# EAGLE library part SDCARD (library SDCARD)
SD CARD CONNECTOR
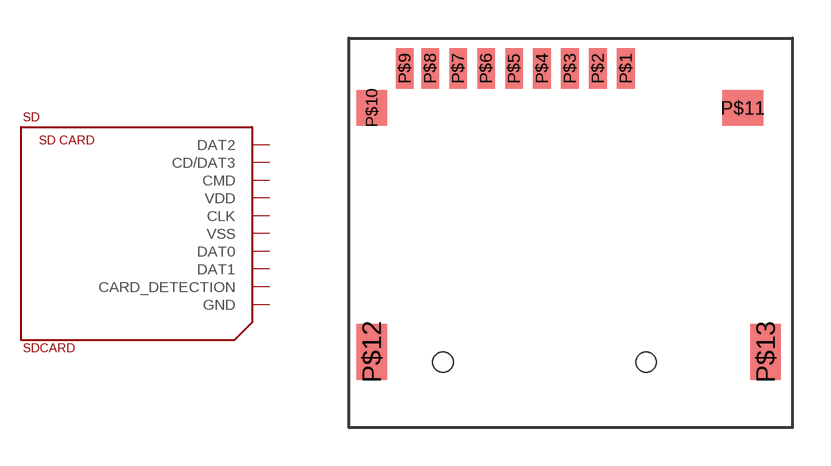
[diagram p0: symbol with the pads of SD; footprint SD]

Designator prefix SD

## SDCARD  [SD]
P$1  DAT2
P$2  CD/DAT3
P$3  CMD
P$4  VDD
P$5  CLK
P$6  VSS
P$7  DAT0
P$8  DAT1
P$9  CARD_DETECTION
P$10  GND

## Footprint SD (pad centres in mm)
smd 0.7 x 1.6: P$1 2.25,6.47; P$2 1.15,6.47; P$3 0.05,6.47; P$4 -1.05,6.47; P$5 -2.15,6.47; P$6 -3.25,6.47; P$7 -4.35,6.47; P$8 -5.45,6.47; P$9 -6.45,6.47
smd 1.2 x 1.4: P$10 -7.75,4.92
smd 1.6 x 1.4: P$11 6.85,4.92
smd 1.2 x 2.2: P$12 -7.75,-4.68; P$13 7.75,-4.68